# EAGLE library part LMR16006XDDCR (library VaskoCustom)
LMR16006XDDCR SIMPLESWITCHER®60 V 0.6 A Buck RegulatorsWith High Efficiency ECO Mode Texas Instruments
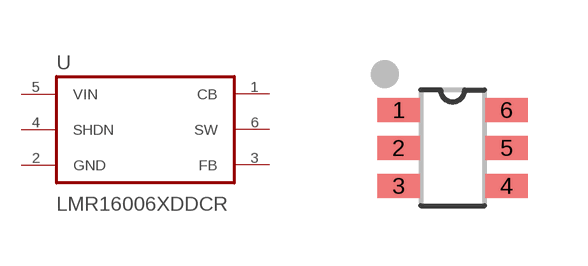
[diagram p3: symbol with the pads of SOT-23-6-THIN; footprint SOT-23-6-THIN]

Designator prefix U

## LMR16006XDDCR (VALUE: LMR16006XDDCR)  [SOT-23-6-THIN]
1  CB
2  GND  pwr
3  FB
4  SHDN
5  VIN  in
6  SW

## Footprint SOT-23-6-THIN (pad centres in mm)
SOT-23-THIN 6 Pins
smd 1.1 x 0.6: 1 -1.35,0.95; 2 -1.35,0; 3 -1.35,-0.95; 4 1.35,-0.95; 5 1.35,0; 6 1.35,0.95